# Altium footprint library Connectors.PcbLib: 5 footprints
Each footprint in its own frame and in the unit in brackets; x right, y up, seen from the top. Pads: shape width x height; smd on the part's side, far side on the other; paste and mask are expansions set on the pad; w line width, h text height; cw(c..) or ccw(c..) is an arc to the next point about the centre after c.
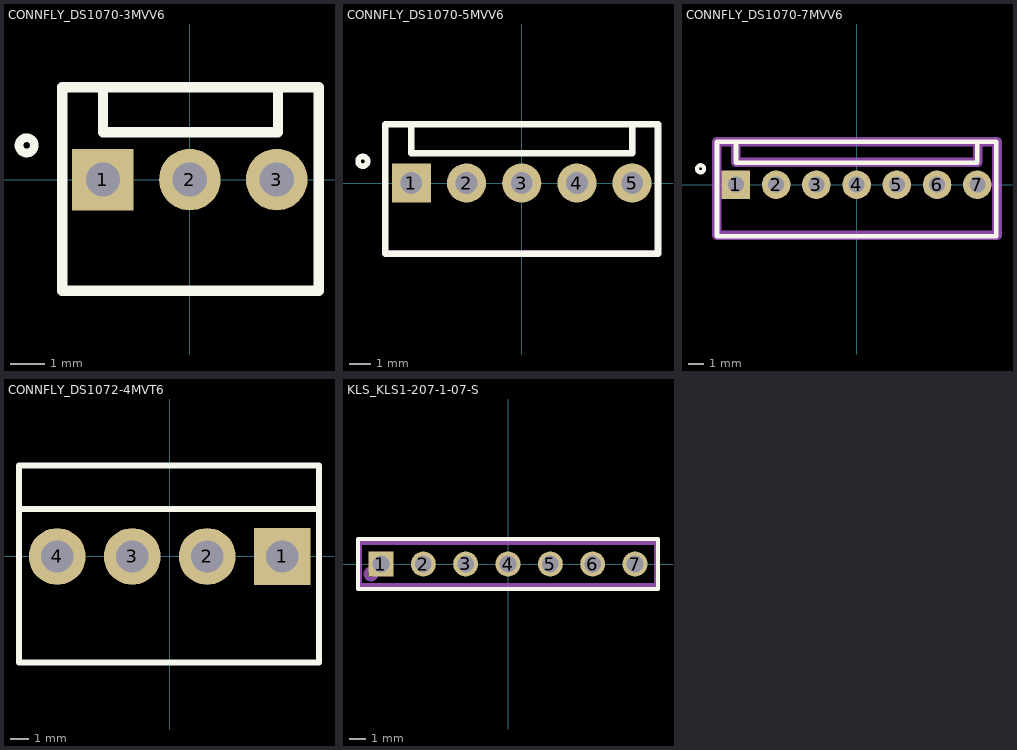
[diagram p0: the footprints below, top view; thin cyan lines are the x and y axes]

## CONNFLY_DS1070-3MVV6 [mm] "2.54 WF-3"
height 11
pads (3):
  rect 1.8x1.8 hole 1: 1(-2.54,0)
  round 1.8 hole 1: 2(0,0) 3(2.54,0)
Top Overlay:
  circle w0.254: c-4.77,1 r0.224
  lines w0.3: -2.54,2.7 -2.54,1.38 2.58,1.38 2.58,2.6 ; -3.73,-3.25 -3.73,2.7 3.77,2.7 3.77,-3.25 -3.73,-3.25
Mechanical 15:
  circle w0.254: c-2.6,0 r0.237
  lines w0.25: -2.525,2.7 -2.525,1.405 -2.5,1.38 2.575,1.38 2.575,2.7 ; -3.73,-3.245 -3.73,2.7 3.775,2.7 3.77,2.695 3.77,-3.23 3.75,-3.25 -3.725,-3.25 -3.73,-3.245
3D body "User Library-WF-3-1.STEP": height 11.62, standoff -2.78, extent -3.73,-3.2 3.77,2.6

## CONNFLY_DS1070-5MVV6 [mm] "2.54 WF-5"
height 11
pads (5):
  rect 1.8x1.8 hole 1: 1(-5.08,0)
  round 1.8 hole 1: 2(-2.54,0) 3(0,0) 4(2.54,0) 5(5.08,0)
Top Overlay:
  circle w0.254: c-7.31,1 r0.224
  lines w0.3: -5.08,2.7 -5.08,1.38 5.08,1.38 5.08,2.7 ; 6.223,-3.25 -6.27,-3.25 -6.27,2.7 6.223,2.7 ; 6.27,-3.25 6.27,2.7
Mechanical 15:
  circle w0.254: c-5.2,0 r0.237
  lines w0.25: -5.1,2.7 -5.1,1.4 5.1,1.4 5.1,2.7 ; -6.27,-3.2 -6.27,2.7 6.27,2.7 6.27,2.67 6.27,-3.2 -6.27,-3.2
3D body "User Library-WF-5.step": height 11.64, standoff -2.76, extent -6.35,-3.175 6.35,2.625

## CONNFLY_DS1070-7MVV6 [mm] "2.54 WF-7"
height 11
pads (7):
  rect 1.8x1.8 hole 1: 1(-7.62,0)
  round 1.8 hole 1: 2(-5.08,0) 3(-2.54,0) 4(0,0) 5(2.54,0) 6(5.08,0) 7(7.62,0)
Top Overlay:
  circle w0.254: c-9.85,1 r0.224
  lines w0.3: -7.62,2.7 -7.62,1.38 7.62,1.38 7.62,2.7 ; -8.81,-3.25 8.81,-3.25 8.81,2.7 -8.81,2.7 -8.81,-3.25
Mechanical 15:
  circle w0.6: c-7.64,0 r0.237
  lines w0.6: -7.64,2.7 -7.62,2.7 -7.62,1.4 7.66,1.4 7.66,2.7 ; -8.84,-3.2 8.86,-3.2 8.86,2.7 -8.84,2.7 -8.84,-3.2
3D body "User Library-DS1070-7 (WF-7 CONNFLY).step": height 11.48, standoff -3.22, extent -8.89,-3.5 8.89,2.4

## CONNFLY_DS1072-4MVT6 [mm] "3.96 PWL-4"
height 14.7
pads (4):
  rect 3x3 hole 1.7: 1(5.94,0)
  round 3 hole 1.7: 2(1.98,0) 3(-1.98,0) 4(-5.94,0)
Top Overlay:
  lines w0.3: -7.96,2.5 7.88,2.5 ; -7.96,-5.6 -7.96,4.8 7.88,4.8 7.88,-5.6 -7.96,-5.6
Mechanical 15:
  circle w0.254: c6.54,0.4 r0.3
  lines w0.254: -7.86,2.5 7.88,2.5 ; -7.96,-5.6 7.88,-5.6 ; -7.96,-5.6 -7.96,-5.6 ; -7.96,-5.6 -7.96,4.8 7.88,4.8 7.88,-5.6 ; 7.88,-5.6 7.88,-5.6
3D body "User Library-PWL-4.step": height 13.8, standoff -3.6, extent -7.949,-5.588 7.891,4.812

## KLS_KLS1-207-1-07-S [mm] "PLS-2.54-7"
pads (7):
  rect 1.5x1.5 hole 1: 1(-7.62,0)
  round 1.5 hole 1: 2(-5.08,0) 3(-2.54,0) 4(0,0) 5(2.54,0) 6(5.08,0) 7(7.62,0)
Top Overlay:
  lines w0.254: -9,-1.5 -9,1.5 9,1.5 9,-1.5 -9,-1.5
Mechanical 15:
  circle w0.254: c-8.22,-0.6 r0.316
  lines w0.254: -8.89,-1.27 8.89,-1.27 8.89,1.27 -8.89,1.27 -8.89,-1.27
3D body "PLS-7.stp": height 8.54, standoff -3, extent -8.89,-1.27 8.89,1.27